# Altium schematic symbol library TP5400.SchLib: 1 symbol
Pins are listed as number, name and electrical type; pins without a type are passive.

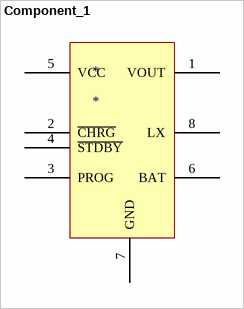
[diagram p0: symbol Component_1]

## Component_1
designator *
pins: 1 VOUT, 2 ~{CHRG}, 3 PROG, 4 ~{STDBY}, 5 VCC, 6 BAT, 7 GND, 8 LX